# EAGLE library part FT230XS (library USB-UART)
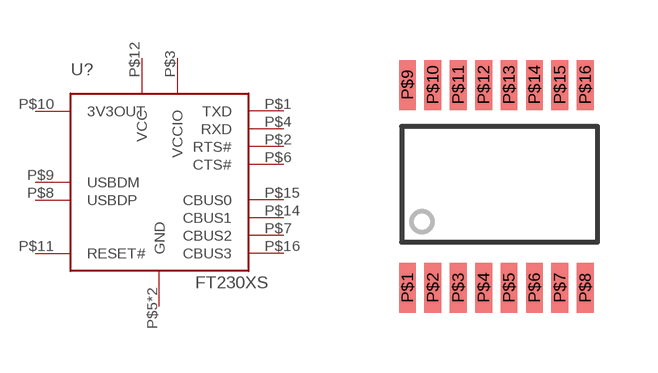
[diagram p0: symbol with the pads of SSOP-16; footprint SSOP-16]

Designator prefix -

## FT230XS  [SSOP-16]
P$1  TXD
P$2  RTS#
P$3  VCCIO
P$4  RXD
P$5  GND
P$6  CTS#
P$7  CBUS2
P$8  USBDP
P$9  USBDM
P$10  3V3OUT
P$11  RESET#
P$12  VCC
P$13  GND
P$14  CBUS1
P$15  CBUS0
P$16  CBUS3

## Footprint SSOP-16 (pad centres in mm)
smd 0.42 x 1.25: P$1 -2.139,-2.413; P$2 -1.504,-2.413; P$3 -0.87,-2.413; P$4 -0.234,-2.413; P$5 0.401,-2.413; P$6 1.036,-2.413; P$7 1.671,-2.413; P$8 2.305,-2.413; P$9 -2.139,2.667; P$10 -1.504,2.667; P$11 -0.87,2.667; P$12 -0.234,2.667; P$13 0.401,2.667; P$14 1.036,2.667; P$15 1.671,2.667; P$16 2.305,2.667